# Altium integrated library 2N7002PW_115.IntLib: 1 symbol
Pins are listed as number, name and electrical type; pins without a type are passive.

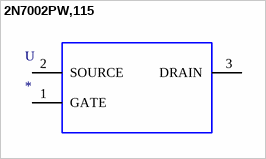
[diagram p0: symbol 2N7002PW,115]

## 2N7002PW,115
designator U
N-Channel 60V 310mA (Ta) 260mW (Ta) Surface Mount SOT-323; MP: 2N7002PW,115; MF: Nexperia USA; SnapEDA_Link: https://www.snapeda.com/parts/2N7002PW,115/Nexperia%20USA%20Inc./view-part/2152859/?ref=snap; Value: *; Digi-Key_Part_Number: 1727-4793-1-ND; Package: SOT-323 Nexperia
footprint SOT65P210X110-3N
pins: 1 GATE, 2 SOURCE, 3 DRAIN